# EAGLE library part NRF24L01-BREAKOUT (library Orlando)
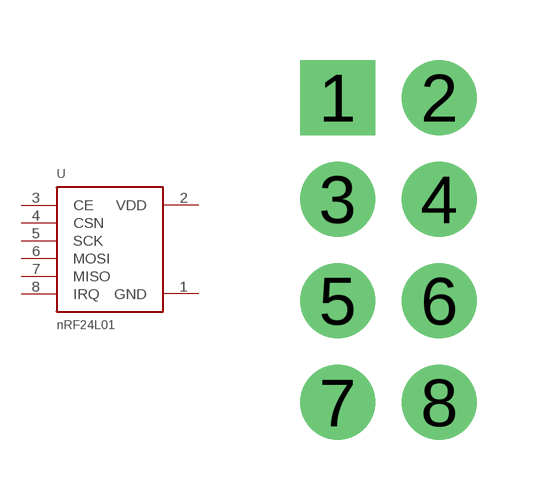
[diagram p22: symbol with the pads of NRF24L01-BREAKOUT; footprint NRF24L01-BREAKOUT]

Designator prefix -

## NRF24L01-BREAKOUT  [NRF24L01-BREAKOUT]
1  GND
2  VDD
3  CE
4  CSN
5  SCK
6  MOSI
7  MISO
8  IRQ

## Footprint NRF24L01-BREAKOUT (pad centres in mm)
drill 1.016 pad 1.88 square: 1 -1.27,3.81
drill 1.016 pad 1.88: 2 1.27,3.81; 3 -1.27,1.27; 4 1.27,1.27; 5 -1.27,-1.27; 6 1.27,-1.27; 7 -1.27,-3.81; 8 1.27,-3.81